# Altium footprint library 0430451227.PcbLib: 1 footprints
Each footprint in its own frame and in the unit in brackets; x right, y up, seen from the top. Pads: shape width x height; smd on the part's side, far side on the other; paste and mask are expansions set on the pad; w line width, h text height; cw(c..) or ccw(c..) is an arc to the next point about the centre after c.
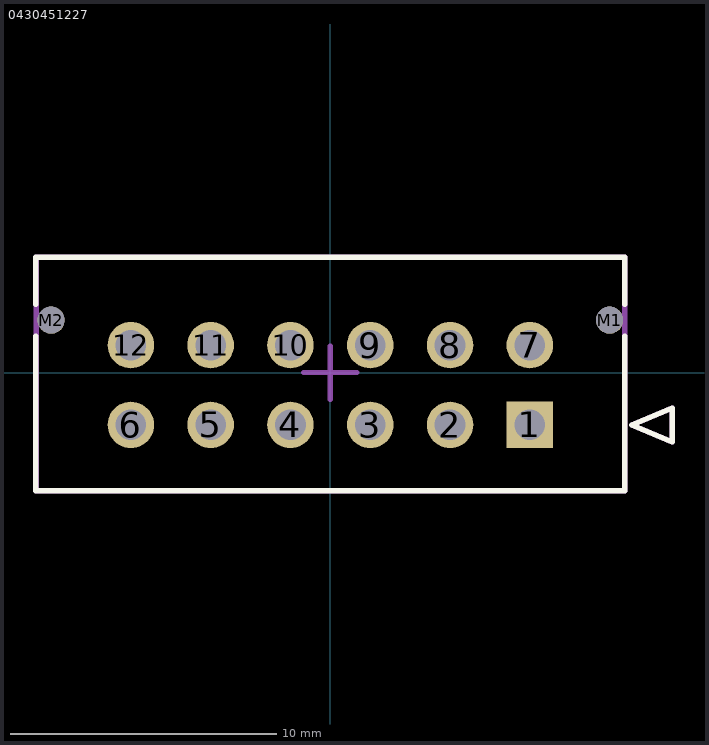
[diagram p0: the footprint, top view; thin cyan lines are the x and y axes]

## 0430451227 [mm]
pads (14):
  rect 1.75x1.75 hole 1.15 mask+0.051: 1(7.5,-1.97)
  round 1.75 hole 1.15 mask+0.051: 2(4.5,-1.97) 3(1.5,-1.97) 4(-1.5,-1.97) 5(-4.5,-1.97) 6(-7.5,-1.97) 7(7.5,1.03) 8(4.5,1.03) 9(1.5,1.03) 10(-1.5,1.03) 11(-4.5,1.03) 12(-7.5,1.03)
  round 1.02 hole 1.02 unplated mask+0: M1(10.5,1.97) M2(-10.5,1.97)
Top Overlay:
  lines w0.2: -11.075,1.375 -11.075,-4.44 11.075,-4.44 11.075,1.375 ; -11.075,2.565 -11.075,4.33 11.075,4.33 11.075,2.565 ; 11.329,-1.97 12.853,-1.335 12.853,-2.605 11.329,-1.97
Top Designator:
  text ".Designator" at -6.729,-0.563 h1.52
3D Body:
  lines w0.2: -11.056,-4.44 -11.056,-2.35 -11.056,4.33 11.075,4.33 11.075,-4.44 -5.075,-4.44 -11.056,-4.44 ; 11.329,-1.97 12.853,-1.335 12.853,-2.605 11.329,-1.97
Center Cross:
  lines w0.2: -1,0 0,0 ; 0,-1 0,0 ; 0,1 0,0 ; 1,0 0,0
3D body "430451227.stp": height 9.92, standoff -3.17, extent -11.075,-4.44 11.075,4.33